# Altium footprint library CUINC_PJ-102AH.PcbLib: 1 footprints
Each footprint in its own frame and in the unit in brackets; x right, y up, seen from the top. Pads: shape width x height; smd on the part's side, far side on the other; paste and mask are expansions set on the pad; w line width, h text height; cw(c..) or ccw(c..) is an arc to the next point about the centre after c.
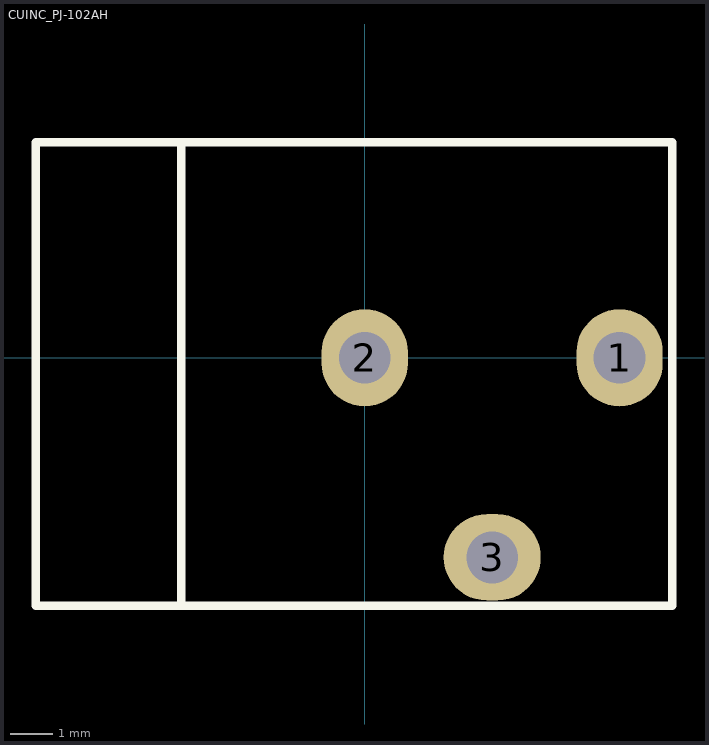
[diagram p0: the footprint, top view; thin cyan lines are the x and y axes]

## CUINC_PJ-102AH [mil]
pads (3):
  oval 80x90 hole 48: 1(236.22,0) 2(0,0)
  oval 90x80 hole 48: 3(118.11,-185.04)
Top Overlay:
  lines w7.87: -170,-230 -170,200 ; -305,-230 -80,-230 285,-230 285,200 -305,200 -305,-230